# EAGLE library part TLV341A (library TLV341A)
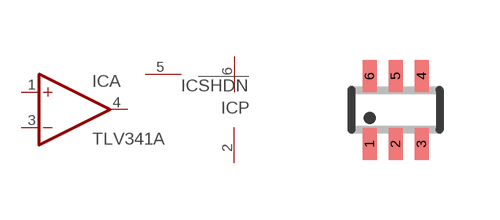
[diagram p0: symbol with the pads of SC70-6L; footprint SC70-6L]

Designator prefix IC; gates A=OPAMP P=PWR+- !SHDN=!SHDN

## TLV341A  [SC70-6L]
1  A:+IN  in
2  P:V-  pwr
3  A:-IN  in
4  A:OUT  out
5  !SHDN:!SHDN
6  P:V+  pwr

## Footprint SC70-6L (pad centres in mm)
SC-70 Package
smd 0.35 x 0.8: 1 -0.65,-0.85; 2 0,-0.85; 3 0.65,-0.85; 4 0.65,0.85; 5 0,0.85; 6 -0.65,0.85